# Altium schematic symbol library XH-JST_2.5mm.SchLib: 35 symbols
Pins are listed as number, name and electrical type; pins without a type are passive.

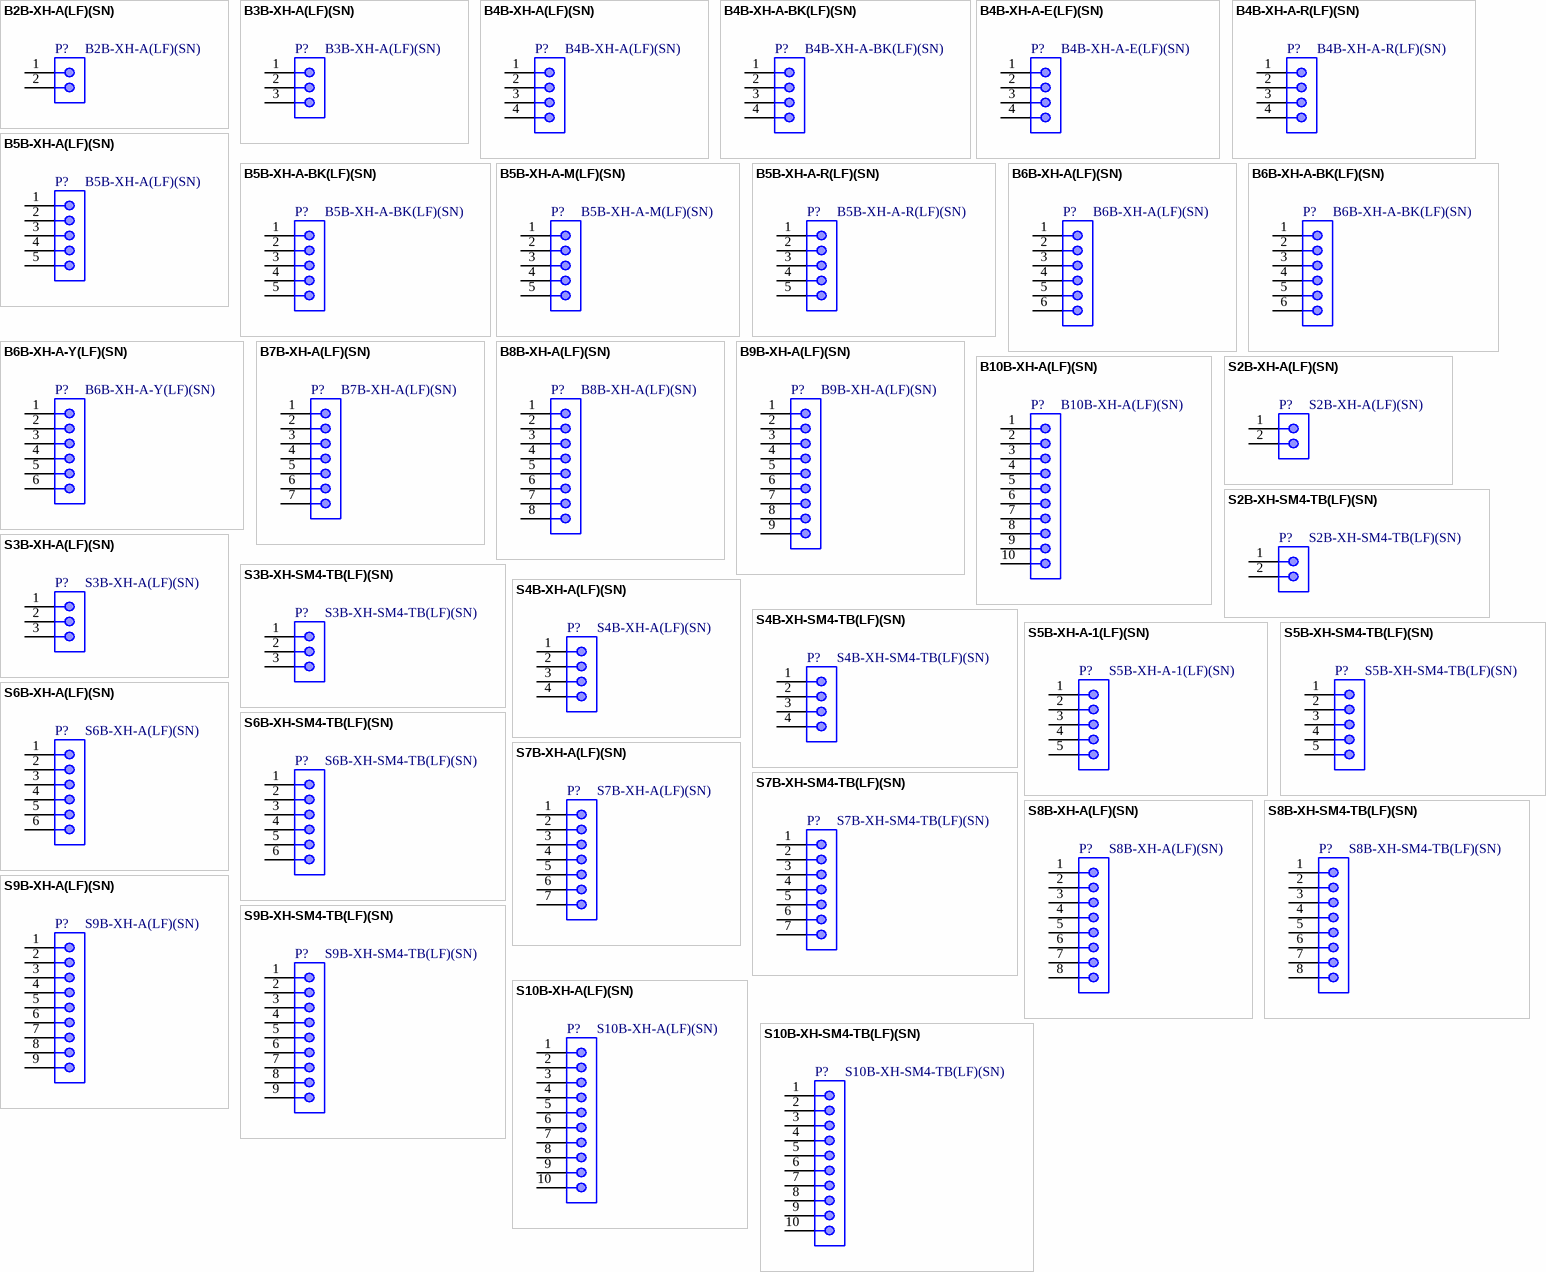
[diagram p0: symbols B2B-XH-A(LF)(SN) to S10B-XH-SM4-TB(LF)(SN)]

## B2B-XH-A(LF)(SN)
designator P?
1x2P 2P XH 1 Tin 2.5mm 2 -25℃~+85℃ 3A Brass Straight Plugin,P=2.5mm Wire To Board / Wire To Wire Connector ROHS; Manufacturer: JST; Pin Number: 2; Contact Resistance: 20mOhm; Gender: Male; Withstanding Voltage: 1000VAC; Working Voltage: 250VAC; ComponentLink1Description: Datasheet; ComponentLink1URL: https://www.lcsc.com/datasheet/lcsc_datasheet_2304140030_JST-B2B-XH-A-LF-SN_C158012.pdf; Pitch: 2.5mm; Packaging: Bag; Type: Vertical; Rated Current: 3A; Supplier 1 URL: N/A; Supplier 2 URL: N/A; Supplier 3 URL: https://www.thegioiic.com/dau-xh-2-54mm-2-chan-thang-xuyen-lo; Value: B2B-XH-A(LF)(SN); LCSC Part #: C158012; Manufacturer Part Number: B2B-XH-A(LF)(SN); Mount: THT; Operating Temperature Max: + 85 C; Operating Temperature Min: - 20 C; Package / Case: 2; Supplier 1: Mouser; Supplier 1 Part Number: N/A; Supplier 2: Digi-Key; Supplier 2 Part Number: N/A; Supplier 3: thegioiic; Supplier 3 Part Number: N/A
footprint 619000211121 (2.54mm Male Locking Header, 2p)
pins: 1, 2

## B3B-XH-A(LF)(SN)
designator P?
1x3P 3P XH 1 Tin 2.5mm 3 -25℃~+85℃ 3A Brass Straight Plugin,P=2.5mm Wire To Board / Wire To Wire Connector ROHS; Manufacturer: JST; Pin Number: 3; Contact Resistance: 20mOhm; Gender: Male; Withstanding Voltage: 1000VAC; Working Voltage: 250VAC; ComponentLink1Description: Datasheet; ComponentLink1URL: https://www.lcsc.com/datasheet/lcsc_datasheet_2304140030_JST-B2B-XH-A-LF-SN_C158012.pdf; Pitch: 2.5mm; Packaging: Bag; Type: Vertical; Rated Current: 3A; Supplier 1 URL: N/A; Supplier 2 URL: N/A; Supplier 3 URL: https://www.thegioiic.com/dau-xh-2-54mm-3-chan-thang-xuyen-lo; Value: B3B-XH-A(LF)(SN); LCSC Part #: C144394; Manufacturer Part Number: B3B-XH-A(LF)(SN); Mount: THT; Operating Temperature Max: + 85 C; Operating Temperature Min: - 20 C; Package / Case: 3; Supplier 1: Mouser; Supplier 1 Part Number: N/A; Supplier 2: Digi-Key; Supplier 2 Part Number: N/A; Supplier 3: thegioiic; Supplier 3 Part Number: N/A
footprint 619000311121 (2.54mm Male Locking Header, 3p)
pins: 1, 2, 3

## B4B-XH-A(LF)(SN)
designator P?
1x4P 4P XH 1 Tin 2.5mm 4 -25℃~+85℃ 3A Brass Straight Plugin,P=2.5mm Wire To Board / Wire To Wire Connector ROHS; Manufacturer: JST; Pin Number: 4; Contact Resistance: 20mOhm; Gender: Male; Withstanding Voltage: 1000VAC; Working Voltage: 250VAC; ComponentLink1Description: Datasheet; ComponentLink1URL: https://www.lcsc.com/datasheet/lcsc_datasheet_2304140030_JST-B2B-XH-A-LF-SN_C158012.pdf; Pitch: 2.5mm; Packaging: Bag; Type: Vertical; Rated Current: 3A; Supplier 1 URL: N/A; Supplier 2 URL: N/A; Supplier 3 URL: https://www.thegioiic.com/dau-xh-2-54mm-4-chan-thang-xuyen-lo; Value: B4B-XH-A(LF)(SN); LCSC Part #: C144395; Manufacturer Part Number: B4B-XH-A(LF)(SN); Mount: THT; Operating Temperature Max: + 85 C; Operating Temperature Min: - 20 C; Package / Case: 4; Supplier 1: Mouser; Supplier 1 Part Number: N/A; Supplier 2: Digi-Key; Supplier 2 Part Number: N/A; Supplier 3: thegioiic; Supplier 3 Part Number: N/A
footprint 619000411121 (2.54mm Male Locking Header, 4p)
pins: 1, 2, 3, 4

## B4B-XH-A-BK(LF)(SN)
designator P?
1x4P 4P XH 1 Tin 2.5mm 4 -25℃~+85℃ 3A Brass Straight Plugin,P=2.5mm Wire To Board / Wire To Wire Connector ROHS; Manufacturer: JST; Pin Number: 4; Contact Resistance: 20mOhm; Gender: Male; Withstanding Voltage: 1000VAC; Working Voltage: 250VAC; ComponentLink1Description: Datasheet; ComponentLink1URL: https://www.lcsc.com/datasheet/lcsc_datasheet_2304140030_JST-B2B-XH-A-LF-SN_C158012.pdf; Pitch: 2.5mm; Packaging: Bag; Type: Vertical; Rated Current: 3A; Supplier 1 URL: N/A; Supplier 2 URL: N/A; Supplier 3 URL: https://www.thegioiic.com/dau-xh-2-54mm-4-chan-thang-xuyen-lo; Value: B4B-XH-A-BK(LF)(SN); LCSC Part #: C595709; Manufacturer Part Number: B4B-XH-A-BK(LF)(SN); Mount: THT; Operating Temperature Max: + 85 C; Operating Temperature Min: - 20 C; Package / Case: 4; Supplier 1: Mouser; Supplier 1 Part Number: N/A; Supplier 2: Digi-Key; Supplier 2 Part Number: N/A; Supplier 3: thegioiic; Supplier 3 Part Number: N/A
footprint 619000411121 (2.54mm Male Locking Header, 4p)
pins: 1, 2, 3, 4

## B4B-XH-A-E(LF)(SN)
designator P?
1x4P 4P XH 1 Tin 2.5mm 4 -25℃~+85℃ 3A Brass Straight Plugin,P=2.5mm Wire To Board / Wire To Wire Connector ROHS; Manufacturer: JST; Pin Number: 4; Contact Resistance: 20mOhm; Gender: Male; Withstanding Voltage: 1000VAC; Working Voltage: 250VAC; ComponentLink1Description: Datasheet; ComponentLink1URL: https://www.lcsc.com/datasheet/lcsc_datasheet_2304140030_JST-B2B-XH-A-LF-SN_C158012.pdf; Pitch: 2.5mm; Packaging: Bag; Type: Vertical; Rated Current: 3A; Supplier 1 URL: N/A; Supplier 2 URL: N/A; Supplier 3 URL: https://www.thegioiic.com/dau-xh-2-54mm-4-chan-thang-xuyen-lo; Value: B4B-XH-A-E(LF)(SN); LCSC Part #: C566014; Manufacturer Part Number: B4B-XH-A-E(LF)(SN); Mount: THT; Operating Temperature Max: + 85 C; Operating Temperature Min: - 20 C; Package / Case: 4; Supplier 1: Mouser; Supplier 1 Part Number: N/A; Supplier 2: Digi-Key; Supplier 2 Part Number: N/A; Supplier 3: thegioiic; Supplier 3 Part Number: N/A
footprint 619000411121 (2.54mm Male Locking Header, 4p)
pins: 1, 2, 3, 4

## B4B-XH-A-R(LF)(SN)
designator P?
1x4P 4P XH 1 Tin 2.5mm 4 -25℃~+85℃ 3A Brass Straight Plugin,P=2.5mm Wire To Board / Wire To Wire Connector ROHS; Manufacturer: JST; Pin Number: 4; Contact Resistance: 20mOhm; Gender: Male; Withstanding Voltage: 1000VAC; Working Voltage: 250VAC; ComponentLink1Description: Datasheet; ComponentLink1URL: https://www.lcsc.com/datasheet/lcsc_datasheet_2304140030_JST-B2B-XH-A-LF-SN_C158012.pdf; Pitch: 2.5mm; Packaging: Bag; Type: Vertical; Rated Current: 3A; Supplier 1 URL: N/A; Supplier 2 URL: N/A; Supplier 3 URL: https://www.thegioiic.com/dau-xh-2-54mm-4-chan-thang-xuyen-lo; Value: B4B-XH-A-R(LF)(SN); LCSC Part #: C595709; Manufacturer Part Number: B4B-XH-A-R(LF)(SN); Mount: THT; Operating Temperature Max: + 85 C; Operating Temperature Min: - 20 C; Package / Case: 4; Supplier 1: Mouser; Supplier 1 Part Number: N/A; Supplier 2: Digi-Key; Supplier 2 Part Number: N/A; Supplier 3: thegioiic; Supplier 3 Part Number: N/A
footprint 619000411121 (2.54mm Male Locking Header, 4p)
pins: 1, 2, 3, 4

## B5B-XH-A(LF)(SN)
designator P?
1x5P 5P XH 1 Tin 2.5mm 5 -25℃~+85℃ 3A Brass Straight Plugin,P=2.5mm Wire To Board / Wire To Wire Connector ROHS; Manufacturer: JST; Pin Number: 5; Contact Resistance: 20mOhm; Gender: Male; Withstanding Voltage: 1000VAC; Working Voltage: 250VAC; ComponentLink1Description: Datasheet; ComponentLink1URL: https://www.lcsc.com/datasheet/lcsc_datasheet_2304140030_JST-B2B-XH-A-LF-SN_C158012.pdf; Pitch: 2.5mm; Packaging: Bag; Type: Vertical; Rated Current: 3A; Supplier 1 URL: N/A; Supplier 2 URL: N/A; Supplier 3 URL: https://www.thegioiic.com/dau-xh-2-54mm-5-chan-thang-xuyen-lo; Value: B5B-XH-A(LF)(SN); LCSC Part #: C157991; Manufacturer Part Number: B5B-XH-A(LF)(SN); Mount: THT; Operating Temperature Max: + 85 C; Operating Temperature Min: - 20 C; Package / Case: 5; Supplier 1: Mouser; Supplier 1 Part Number: N/A; Supplier 2: Digi-Key; Supplier 2 Part Number: N/A; Supplier 3: thegioiic; Supplier 3 Part Number: N/A
footprint 619000511121 (2.54mm Male Locking Header, 5p)
pins: 1, 2, 3, 4, 5

## B5B-XH-A-BK(LF)(SN)
designator P?
1x5P 5P XH 1 Tin 2.5mm 5 -25℃~+85℃ 3A Brass Straight Plugin,P=2.5mm Wire To Board / Wire To Wire Connector ROHS; Manufacturer: JST; Pin Number: 5; Contact Resistance: 20mOhm; Gender: Male; Withstanding Voltage: 1000VAC; Working Voltage: 250VAC; ComponentLink1Description: Datasheet; ComponentLink1URL: https://www.lcsc.com/datasheet/lcsc_datasheet_2304140030_JST-B2B-XH-A-LF-SN_C158012.pdf; Pitch: 2.5mm; Packaging: Bag; Type: Vertical; Rated Current: 3A; Supplier 1 URL: N/A; Supplier 2 URL: N/A; Supplier 3 URL: https://www.thegioiic.com/dau-xh-2-54mm-5-chan-thang-xuyen-lo; Value: B5B-XH-A-BK(LF)(SN); LCSC Part #: C378947; Manufacturer Part Number: B5B-XH-A-BK(LF)(SN); Mount: THT; Operating Temperature Max: + 85 C; Operating Temperature Min: - 20 C; Package / Case: 5; Supplier 1: Mouser; Supplier 1 Part Number: N/A; Supplier 2: Digi-Key; Supplier 2 Part Number: N/A; Supplier 3: thegioiic; Supplier 3 Part Number: N/A
footprint 619000511121 (2.54mm Male Locking Header, 5p)
pins: 1, 2, 3, 4, 5

## B5B-XH-A-M(LF)(SN)
designator P?
1x5P 5P XH 1 Tin 2.5mm 5 -25℃~+85℃ 3A Brass Straight Plugin,P=2.5mm Wire To Board / Wire To Wire Connector ROHS; Manufacturer: JST; Pin Number: 5; Contact Resistance: 20mOhm; Gender: Male; Withstanding Voltage: 1000VAC; Working Voltage: 250VAC; ComponentLink1Description: Datasheet; ComponentLink1URL: https://www.lcsc.com/datasheet/lcsc_datasheet_2304140030_JST-B2B-XH-A-LF-SN_C158012.pdf; Pitch: 2.5mm; Packaging: Bag; Type: Vertical; Rated Current: 3A; Supplier 1 URL: N/A; Supplier 2 URL: N/A; Supplier 3 URL: https://www.thegioiic.com/dau-xh-2-54mm-5-chan-thang-xuyen-lo; Value: B5B-XH-A-M(LF)(SN); LCSC Part #: C495550; Manufacturer Part Number: B5B-XH-A-M(LF)(SN); Mount: THT; Operating Temperature Max: + 85 C; Operating Temperature Min: - 20 C; Package / Case: 5; Supplier 1: Mouser; Supplier 1 Part Number: N/A; Supplier 2: Digi-Key; Supplier 2 Part Number: N/A; Supplier 3: thegioiic; Supplier 3 Part Number: N/A
footprint 619000511121 (2.54mm Male Locking Header, 5p)
pins: 1, 2, 3, 4, 5

## B5B-XH-A-R(LF)(SN)
designator P?
1x5P 5P XH 1 Tin 2.5mm 5 -25℃~+85℃ 3A Brass Straight Plugin,P=2.5mm Wire To Board / Wire To Wire Connector ROHS; Manufacturer: JST; Pin Number: 5; Contact Resistance: 20mOhm; Gender: Male; Withstanding Voltage: 1000VAC; Working Voltage: 250VAC; ComponentLink1Description: Datasheet; ComponentLink1URL: https://www.lcsc.com/datasheet/lcsc_datasheet_2304140030_JST-B2B-XH-A-LF-SN_C158012.pdf; Pitch: 2.5mm; Packaging: Bag; Type: Vertical; Rated Current: 3A; Supplier 1 URL: N/A; Supplier 2 URL: N/A; Supplier 3 URL: https://www.thegioiic.com/dau-xh-2-54mm-5-chan-thang-xuyen-lo; Value: B5B-XH-A-R(LF)(SN); LCSC Part #: C38570328; Manufacturer Part Number: B5B-XH-A-R(LF)(SN); Mount: THT; Operating Temperature Max: + 85 C; Operating Temperature Min: - 20 C; Package / Case: 5; Supplier 1: Mouser; Supplier 1 Part Number: N/A; Supplier 2: Digi-Key; Supplier 2 Part Number: N/A; Supplier 3: thegioiic; Supplier 3 Part Number: N/A
footprint 619000511121 (2.54mm Male Locking Header, 5p)
pins: 1, 2, 3, 4, 5

## B6B-XH-A(LF)(SN)
designator P?
1x6P 6P XH 1 Tin 2.5mm 6 -25℃~+85℃ 3A Brass Straight Plugin,P=2.5mm Wire To Board / Wire To Wire Connector ROHS; Manufacturer: JST; Pin Number: 6; Contact Resistance: 20mOhm; Gender: Male; Withstanding Voltage: 1000VAC; Working Voltage: 250VAC; ComponentLink1Description: Datasheet; ComponentLink1URL: https://www.lcsc.com/datasheet/lcsc_datasheet_2304140030_JST-B2B-XH-A-LF-SN_C158012.pdf; Pitch: 2.5mm; Packaging: Bag; Type: Vertical; Rated Current: 3A; Supplier 1 URL: N/A; Supplier 2 URL: N/A; Supplier 3 URL: https://www.thegioiic.com/dau-xh-2-54mm-6-chan-thang-xuyen-lo; Value: B6B-XH-A(LF)(SN); LCSC Part #: C144397; Manufacturer Part Number: B6B-XH-A(LF)(SN); Mount: THT; Operating Temperature Max: + 85 C; Operating Temperature Min: - 20 C; Package / Case: 6; Supplier 1: Mouser; Supplier 1 Part Number: N/A; Supplier 2: Digi-Key; Supplier 2 Part Number: N/A; Supplier 3: thegioiic; Supplier 3 Part Number: N/A
footprint 619000611121 (2.54mm Male Locking Header, 6p)
pins: 1, 2, 3, 4, 5, 6

## B6B-XH-A-BK(LF)(SN)
designator P?
1x6P 6P XH 1 Tin 2.5mm 6 -25℃~+85℃ 3A Brass Straight Plugin,P=2.5mm Wire To Board / Wire To Wire Connector ROHS; Manufacturer: JST; Pin Number: 6; Contact Resistance: 20mOhm; Gender: Male; Withstanding Voltage: 1000VAC; Working Voltage: 250VAC; ComponentLink1Description: Datasheet; ComponentLink1URL: https://www.lcsc.com/datasheet/lcsc_datasheet_2304140030_JST-B2B-XH-A-LF-SN_C158012.pdf; Pitch: 2.5mm; Packaging: Bag; Type: Vertical; Rated Current: 3A; Supplier 1 URL: N/A; Supplier 2 URL: N/A; Supplier 3 URL: https://www.thegioiic.com/dau-xh-2-54mm-6-chan-thang-xuyen-lo; Value: B6B-XH-A-BK(LF)(SN); LCSC Part #: C378950; Manufacturer Part Number: B6B-XH-A-BK(LF)(SN); Mount: THT; Operating Temperature Max: + 85 C; Operating Temperature Min: - 20 C; Package / Case: 6; Supplier 1: Mouser; Supplier 1 Part Number: N/A; Supplier 2: Digi-Key; Supplier 2 Part Number: N/A; Supplier 3: thegioiic; Supplier 3 Part Number: N/A
footprint 619000611121 (2.54mm Male Locking Header, 6p)
pins: 1, 2, 3, 4, 5, 6

## B6B-XH-A-Y(LF)(SN)
designator P?
1x6P 6P XH 1 Tin 2.5mm 6 -25℃~+85℃ 3A Brass Straight Plugin,P=2.5mm Wire To Board / Wire To Wire Connector ROHS; Manufacturer: JST; Pin Number: 6; Contact Resistance: 20mOhm; Gender: Male; Withstanding Voltage: 1000VAC; Working Voltage: 250VAC; ComponentLink1Description: Datasheet; ComponentLink1URL: https://www.lcsc.com/datasheet/lcsc_datasheet_2304140030_JST-B2B-XH-A-LF-SN_C158012.pdf; Pitch: 2.5mm; Packaging: Bag; Type: Vertical; Rated Current: 3A; Supplier 1 URL: N/A; Supplier 2 URL: N/A; Supplier 3 URL: https://www.thegioiic.com/dau-xh-2-54mm-6-chan-thang-xuyen-lo; Value: B6B-XH-A-Y(LF)(SN); LCSC Part #: C566057; Manufacturer Part Number: B6B-XH-A-Y(LF)(SN); Mount: THT; Operating Temperature Max: + 85 C; Operating Temperature Min: - 20 C; Package / Case: 6; Supplier 1: Mouser; Supplier 1 Part Number: N/A; Supplier 2: Digi-Key; Supplier 2 Part Number: N/A; Supplier 3: thegioiic; Supplier 3 Part Number: N/A
footprint 619000611121 (2.54mm Male Locking Header, 6p)
pins: 1, 2, 3, 4, 5, 6

## B7B-XH-A(LF)(SN)
designator P?
1x7P 7P XH 1 Tin 2.5mm 7 -25℃~+85℃ 3A Brass Straight Plugin,P=2.5mm Wire To Board / Wire To Wire Connector ROHS; Manufacturer: JST; Pin Number: 7; Contact Resistance: 20mOhm; Gender: Male; Withstanding Voltage: 1000VAC; Working Voltage: 250VAC; ComponentLink1Description: Datasheet; ComponentLink1URL: https://www.lcsc.com/datasheet/lcsc_datasheet_2304140030_JST-B2B-XH-A-LF-SN_C158012.pdf; Pitch: 2.5mm; Packaging: Bag; Type: Vertical; Rated Current: 3A; Supplier 1 URL: N/A; Supplier 2 URL: N/A; Supplier 3 URL: https://www.thegioiic.com/dau-xh-2-54mm-7-chan-thang-xuyen-lo; Value: B7B-XH-A(LF)(SN); LCSC Part #: C144398; Manufacturer Part Number: B7B-XH-A(LF)(SN); Mount: THT; Operating Temperature Max: + 85 C; Operating Temperature Min: - 20 C; Package / Case: 7; Supplier 1: Mouser; Supplier 1 Part Number: N/A; Supplier 2: Digi-Key; Supplier 2 Part Number: N/A; Supplier 3: thegioiic; Supplier 3 Part Number: N/A
footprint 619000711121 (2.54mm Male Locking Header, 7p)
pins: 1, 2, 3, 4, 5, 6, 7

## B8B-XH-A(LF)(SN)
designator P?
1x8P 8P XH 1 Tin 2.5mm 8 -25℃~+85℃ 3A Brass Straight Plugin,P=2.5mm Wire To Board / Wire To Wire Connector ROHS; Manufacturer: JST; Pin Number: 8; Contact Resistance: 20mOhm; Gender: Male; Withstanding Voltage: 1000VAC; Working Voltage: 250VAC; ComponentLink1Description: Datasheet; ComponentLink1URL: https://www.lcsc.com/datasheet/lcsc_datasheet_2304140030_JST-B2B-XH-A-LF-SN_C158012.pdf; Pitch: 2.5mm; Packaging: Bag; Type: Vertical; Rated Current: 3A; Supplier 1 URL: N/A; Supplier 2 URL: N/A; Supplier 3 URL: https://www.thegioiic.com/dau-xh-2-54mm-8-chan-thang-xuyen-lo; Value: B8B-XH-A(LF)(SN); LCSC Part #: C157972; Manufacturer Part Number: B8B-XH-A(LF)(SN); Mount: THT; Operating Temperature Max: + 85 C; Operating Temperature Min: - 20 C; Package / Case: 8; Supplier 1: Mouser; Supplier 1 Part Number: N/A; Supplier 2: Digi-Key; Supplier 2 Part Number: N/A; Supplier 3: thegioiic; Supplier 3 Part Number: N/A
footprint 619000811121 (2.54mm Male Locking Header, 8p)
pins: 1, 2, 3, 4, 5, 6, 7, 8

## B9B-XH-A(LF)(SN)
designator P?
1x9P 9P XH 1 Tin 2.5mm 9 -25℃~+85℃ Brass 3A Straight Plugin,P=2.5mm Wire To Board / Wire To Wire Connector ROHS; Manufacturer: JST; Pin Number: 9; Contact Resistance: 20mOhm; Gender: Male; Withstanding Voltage: 1000VAC; Working Voltage: 250VAC; ComponentLink1Description: Datasheet; ComponentLink1URL: https://www.lcsc.com/datasheet/lcsc_datasheet_2304140030_JST-B2B-XH-A-LF-SN_C158012.pdf; Pitch: 2.5mm; Packaging: Bag; Type: Vertical; Rated Current: 3A; Supplier 1 URL: N/A; Supplier 2 URL: N/A; Supplier 3 URL: https://www.thegioiic.com/dau-xh-2-54mm-9-chan-thang-xuyen-lo; Value: B9B-XH-A(LF)(SN); LCSC Part #: C157966; Manufacturer Part Number: B9B-XH-A(LF)(SN); Mount: THT; Operating Temperature Max: + 85 C; Operating Temperature Min: - 20 C; Package / Case: 9; Supplier 1: Mouser; Supplier 1 Part Number: N/A; Supplier 2: Digi-Key; Supplier 2 Part Number: N/A; Supplier 3: thegioiic; Supplier 3 Part Number: N/A
footprint 619000911121 (2.54mm Male Locking Header, 7p)
pins: 1, 2, 3, 4, 5, 6, 7, 8, 9

## B10B-XH-A(LF)(SN)
designator P?
1x10P 10P XH 1 Tin 2.5mm 10 -25℃~+85℃ Brass 3A Straight Plugin,P=2.5mm Wire To Board / Wire To Wire Connector ROHS; Manufacturer: JST; Pin Number: 10; Contact Resistance: 20mOhm; Gender: Male; Withstanding Voltage: 1000VAC; Working Voltage: 250VAC; ComponentLink1Description: Datasheet; ComponentLink1URL: https://www.lcsc.com/datasheet/lcsc_datasheet_2304140030_JST-B2B-XH-A-LF-SN_C158012.pdf; Pitch: 2.5mm; Packaging: Bag; Type: Vertical; Rated Current: 3A; Supplier 1 URL: N/A; Supplier 2 URL: N/A; Supplier 3 URL: https://www.thegioiic.com/dau-xh-2-54mm-10-chan-thang-xuyen-lo; Value: B10B-XH-A(LF)(SN); LCSC Part #: C565901; Manufacturer Part Number: B10B-XH-A(LF)(SN); Mount: THT; Operating Temperature Max: + 85 C; Operating Temperature Min: - 20 C; Package / Case: 10; Supplier 1: Mouser; Supplier 1 Part Number: N/A; Supplier 2: Digi-Key; Supplier 2 Part Number: N/A; Supplier 3: thegioiic; Supplier 3 Part Number: N/A
footprint 619001011121 (2.54mm Male Locking Header, 10p)
pins: 1, 2, 3, 4, 5, 6, 7, 8, 9, 10

## S2B-XH-A(LF)(SN)
designator P?
1x2P 2P XH 1 2.5mm 2 Brass Right-Angle Push-Pull,P=2.5mm Wire To Board / Wire To Wire Connector ROHS; Manufacturer: JST; Pin Number: 2; Contact Resistance: 20mOhm; Gender: Male; Rated Current: 3A; Withstanding Voltage: 1000VAC; Working Voltage: 250VAC; ComponentLink1Description: Datasheet; ComponentLink1URL: https://www.lcsc.com/datasheet/lcsc_datasheet_2304140030_JST-B2B-XH-A-LF-SN_C158012.pdf; Pitch: 2.5mm; Packaging: Bag; Type: Right Angled Bottom Locking; Supplier 1 URL: N/A; Supplier 2 URL: N/A; Supplier 3 URL: https://www.thegioiic.com/dau-xh-2-54mm-2-chan-cong-xuyen-lo; Value: S2B-XH-A(LF)(SN); LCSC Part #: C157931; Manufacturer Part Number: S2B-XH-A(LF)(SN); Mount: THT; Operating Temperature Max: + 85 C; Operating Temperature Min: - 20 C; Package / Case: 2; Supplier 1: Mouser; Supplier 1 Part Number: N/A; Supplier 2: Digi-Key; Supplier 2 Part Number: N/A; Supplier 3: thegioiic; Supplier 3 Part Number: N/A
footprint 619000211021 (2.54mm Male Left Angled Header Bottom Locking, 2p)
pins: 1, 2

## S2B-XH-SM4-TB(LF)(SN)
designator P?
1x2P 2P XH 1 2.5mm 2 Brass Right-Angle Push-Pull,P=2.5mm Wire To Board / Wire To Wire Connector ROHS; Manufacturer: JST; Pin Number: 2; Contact Resistance: 20mOhm; Gender: Male; Rated Current: 3A; Withstanding Voltage: 1000VAC; Working Voltage: 250VAC; ComponentLink1Description: Datasheet; ComponentLink1URL: https://www.lcsc.com/datasheet/lcsc_datasheet_2304140030_JST-B2B-XH-A-LF-SN_C158012.pdf; Pitch: 2.5mm; Packaging: Bag; Type: Right Angled Bottom Locking; Supplier 1 URL: N/A; Supplier 2 URL: N/A; Supplier 3 URL: https://www.thegioiic.com/dau-xh2-54mm-2-chan-dan-smd-nam-ngang; Value: S2B-XH-SM4-TB(LF)(SN); LCSC Part #: N/A; Manufacturer Part Number: S2B-XH-SM4-TB(LF)(SN); Mount: SMD; Operating Temperature Max: + 85 C; Operating Temperature Min: - 20 C; Package / Case: 2; Supplier 1: Mouser; Supplier 1 Part Number: N/A; Supplier 2: Digi-Key; Supplier 2 Part Number: N/A; Supplier 3: thegioiic; Supplier 3 Part Number: N/A
footprint 619000211221 (2.54mm Male Left Angled Header Bottom Locking, 2p)
pins: 1, 2

## S3B-XH-A(LF)(SN)
designator P?
1x3P 3P XH 1 2.5mm 3 Brass Right-Angle Push-Pull,P=2.5mm Wire To Board / Wire To Wire Connector ROHS; Manufacturer: JST; Pin Number: 3; Contact Resistance: 20mOhm; Gender: Male; Rated Current: 3A; Withstanding Voltage: 1000VAC; Working Voltage: 250VAC; ComponentLink1Description: Datasheet; ComponentLink1URL: https://www.lcsc.com/datasheet/lcsc_datasheet_2304140030_JST-B2B-XH-A-LF-SN_C158012.pdf; Pitch: 2.5mm; Packaging: Bag; Type: Right Angled Bottom Locking; Supplier 1 URL: N/A; Supplier 2 URL: N/A; Supplier 3 URL: https://www.thegioiic.com/dau-xh-2-54mm-3-chan-cong-xuyen-lo; Value: S3B-XH-A(LF)(SN); LCSC Part #: C157928; Manufacturer Part Number: S3B-XH-A(LF)(SN); Mount: THT; Operating Temperature Max: + 85 C; Operating Temperature Min: - 20 C; Package / Case: 3; Supplier 1: Mouser; Supplier 1 Part Number: N/A; Supplier 2: Digi-Key; Supplier 2 Part Number: N/A; Supplier 3: thegioiic; Supplier 3 Part Number: N/A
footprint 619000311021 (2.54mm Male Left Angled Header Bottom Locking, 3p)
pins: 1, 2, 3

## S3B-XH-SM4-TB(LF)(SN)
designator P?
1x3P 3P XH 1 2.5mm 3 Brass Right-Angle Push-Pull,P=2.5mm Wire To Board / Wire To Wire Connector ROHS; Manufacturer: JST; Pin Number: 3; Contact Resistance: 20mOhm; Gender: Male; Rated Current: 3A; Withstanding Voltage: 1000VAC; Working Voltage: 250VAC; ComponentLink1Description: Datasheet; ComponentLink1URL: https://www.lcsc.com/datasheet/lcsc_datasheet_2304140030_JST-B2B-XH-A-LF-SN_C158012.pdf; Pitch: 2.5mm; Packaging: Bag; Type: Right Angled Bottom Locking; Supplier 1 URL: N/A; Supplier 2 URL: N/A; Supplier 3 URL: https://www.thegioiic.com/dau-xh2-54mm-3-chan-dan-smd-nam-ngang; Value: S3B-XH-SM4-TB(LF)(SN); LCSC Part #: C161860; Manufacturer Part Number: S3B-XH-SM4-TB(LF)(SN); Mount: SMD; Operating Temperature Max: + 85 C; Operating Temperature Min: - 20 C; Package / Case: 3; Supplier 1: Mouser; Supplier 1 Part Number: N/A; Supplier 2: Digi-Key; Supplier 2 Part Number: N/A; Supplier 3: thegioiic; Supplier 3 Part Number: N/A
footprint 619000311221 (2.54mm Male Left Angled Header Bottom Locking, 3p, SMD)
pins: 1, 2, 3

## S4B-XH-A(LF)(SN)
designator P?
1x4P 4P XH 1 2.5mm 4 Brass Right-Angle Push-Pull,P=2.5mm Wire To Board / Wire To Wire Connector ROHS; Manufacturer: JST; Pin Number: 4; Contact Resistance: 20mOhm; Gender: Male; Rated Current: 3A; Withstanding Voltage: 1000VAC; Working Voltage: 250VAC; ComponentLink1Description: Datasheet; ComponentLink1URL: https://www.lcsc.com/datasheet/lcsc_datasheet_2304140030_JST-B2B-XH-A-LF-SN_C158012.pdf; Pitch: 2.5mm; Packaging: Bag; Type: Right Angled Bottom Locking; Supplier 1 URL: N/A; Supplier 2 URL: N/A; Supplier 3 URL: https://www.thegioiic.com/dau-xh-2-54mm-4-chan-cong-xuyen-lo; Value: S4B-XH-A(LF)(SN); LCSC Part #: C157925; Manufacturer Part Number: S4B-XH-A(LF)(SN); Mount: THT; Operating Temperature Max: + 85 C; Operating Temperature Min: - 20 C; Package / Case: 4; Supplier 1: Mouser; Supplier 1 Part Number: N/A; Supplier 2: Digi-Key; Supplier 2 Part Number: N/A; Supplier 3: thegioiic; Supplier 3 Part Number: N/A
footprint 619000411021 (2.54mm Male Left Angled Header Bottom Locking, 4p)
pins: 1, 2, 3, 4

## S4B-XH-SM4-TB(LF)(SN)
designator P?
1x4P 4P XH 1 2.5mm 4 Brass Right-Angle Push-Pull,P=2.5mm Wire To Board / Wire To Wire Connector ROHS; Manufacturer: JST; Pin Number: 4; Contact Resistance: 20mOhm; Gender: Male; Rated Current: 3A; Withstanding Voltage: 1000VAC; Working Voltage: 250VAC; ComponentLink1Description: Datasheet; ComponentLink1URL: https://www.lcsc.com/datasheet/lcsc_datasheet_2304140030_JST-B2B-XH-A-LF-SN_C158012.pdf; Pitch: 2.5mm; Packaging: Bag; Type: Right Angled Bottom Locking; Supplier 1 URL: N/A; Supplier 2 URL: N/A; Supplier 3 URL: https://www.thegioiic.com/dau-xh2-54mm-4-chan-dan-smd-nam-ngang; Value: S4B-XH-SM4-TB(LF)(SN); LCSC Part #: C161861; Manufacturer Part Number: S4B-XH-SM4-TB(LF)(SN); Mount: SMD; Operating Temperature Max: + 85 C; Operating Temperature Min: - 20 C; Package / Case: 4; Supplier 1: Mouser; Supplier 1 Part Number: N/A; Supplier 2: Digi-Key; Supplier 2 Part Number: N/A; Supplier 3: thegioiic; Supplier 3 Part Number: N/A
footprint 619000411221 (2.54mm Male Left Angled Header Bottom Locking, 4p, SMD)
pins: 1, 2, 3, 4

## S5B-XH-A-1(LF)(SN)
designator P?
1x5P 5P XH 1 2.5mm 5 Brass Right-Angle Push-Pull,P=2.5mm Wire To Board / Wire To Wire Connector ROHS; Manufacturer: JST; Pin Number: 5; Contact Resistance: 20mOhm; Gender: Male; Rated Current: 3A; Withstanding Voltage: 1000VAC; Working Voltage: 250VAC; ComponentLink1Description: Datasheet; ComponentLink1URL: https://www.lcsc.com/datasheet/lcsc_datasheet_2304140030_JST-B2B-XH-A-LF-SN_C158012.pdf; Pitch: 2.5mm; Packaging: Bag; Type: Right Angled Bottom Locking; Supplier 1 URL: N/A; Supplier 2 URL: N/A; Supplier 3 URL: https://www.thegioiic.com/dau-xh-2-54mm-5-chan-cong-xuyen-lo; Value: S5B-XH-A-1(LF)(SN); LCSC Part #: C163038; Manufacturer Part Number: S5B-XH-A-1(LF)(SN); Mount: THT; Operating Temperature Max: + 85 C; Operating Temperature Min: - 20 C; Package / Case: 5; Supplier 1: Mouser; Supplier 1 Part Number: N/A; Supplier 2: Digi-Key; Supplier 2 Part Number: N/A; Supplier 3: thegioiic; Supplier 3 Part Number: N/A
footprint 619000511021 (2.54mm Male Locking Header, 5p)
pins: 1, 2, 3, 4, 5

## S5B-XH-SM4-TB(LF)(SN)
designator P?
1x5P 5P XH 1 2.5mm 5 Brass Right-Angle Push-Pull,P=2.5mm Wire To Board / Wire To Wire Connector ROHS; Manufacturer: JST; Pin Number: 5; Contact Resistance: 20mOhm; Gender: Male; Rated Current: 3A; Withstanding Voltage: 1000VAC; Working Voltage: 250VAC; ComponentLink1Description: Datasheet; ComponentLink1URL: https://www.lcsc.com/datasheet/lcsc_datasheet_2304140030_JST-B2B-XH-A-LF-SN_C158012.pdf; Pitch: 2.5mm; Packaging: Bag; Type: Right Angled Bottom Locking; Supplier 1 URL: N/A; Supplier 2 URL: N/A; Supplier 3 URL: https://www.thegioiic.com/dau-xh2-54mm-5-chan-dan-smd-nam-ngang; Value: S5B-XH-SM4-TB(LF)(SN); LCSC Part #: N/A; Manufacturer Part Number: S5B-XH-SM4-TB(LF)(SN); Mount: SMD; Operating Temperature Max: + 85 C; Operating Temperature Min: - 20 C; Package / Case: 5; Supplier 1: Mouser; Supplier 1 Part Number: N/A; Supplier 2: Digi-Key; Supplier 2 Part Number: N/A; Supplier 3: thegioiic; Supplier 3 Part Number: N/A
footprint 619000511221 (2.54mm Male Left Angled Header Bottom Locking, 5p, SMD)
pins: 1, 2, 3, 4, 5

## S6B-XH-A(LF)(SN)
designator P?
1x6P 6P XH 1 2.5mm 6 Brass Right-Angle Push-Pull,P=2.5mm Wire To Board / Wire To Wire Connector ROHS; Manufacturer: JST; Pin Number: 6; Contact Resistance: 20mOhm; Gender: Male; Rated Current: 3A; Withstanding Voltage: 1000VAC; Working Voltage: 250VAC; ComponentLink1Description: Datasheet; ComponentLink1URL: https://www.lcsc.com/datasheet/lcsc_datasheet_2304140030_JST-B2B-XH-A-LF-SN_C158012.pdf; Pitch: 2.5mm; Packaging: Bag; Type: Right Angled Bottom Locking; Supplier 1 URL: N/A; Supplier 2 URL: N/A; Supplier 3 URL: https://www.thegioiic.com/dau-xh-2-54mm-6-chan-cong-xuyen-lo; Value: S6B-XH-A(LF)(SN); LCSC Part #: C157919; Manufacturer Part Number: S6B-XH-A(LF)(SN); Mount: THT; Operating Temperature Max: + 85 C; Operating Temperature Min: - 20 C; Package / Case: 6; Supplier 1: Mouser; Supplier 1 Part Number: N/A; Supplier 2: Digi-Key; Supplier 2 Part Number: N/A; Supplier 3: thegioiic; Supplier 3 Part Number: N/A
footprint 619000611021 (2.54mm Male Locking Header, 6p)
pins: 1, 2, 3, 4, 5, 6

## S6B-XH-SM4-TB(LF)(SN)
designator P?
1x6P 6P XH 1 2.5mm 6 Brass Right-Angle Push-Pull,P=2.5mm Wire To Board / Wire To Wire Connector ROHS; Manufacturer: JST; Pin Number: 6; Contact Resistance: 20mOhm; Gender: Male; Rated Current: 3A; Withstanding Voltage: 1000VAC; Working Voltage: 250VAC; ComponentLink1Description: Datasheet; ComponentLink1URL: https://www.lcsc.com/datasheet/lcsc_datasheet_2304140030_JST-B2B-XH-A-LF-SN_C158012.pdf; Pitch: 2.5mm; Packaging: Bag; Type: Right Angled Bottom Locking; Supplier 1 URL: N/A; Supplier 2 URL: N/A; Supplier 3 URL: https://www.thegioiic.com/dau-xh2-54mm-6-chan-dan-smd-nam-ngang; Value: S6B-XH-SM4-TB(LF)(SN); LCSC Part #: C191914; Manufacturer Part Number: S6B-XH-SM4-TB(LF)(SN); Mount: SMD; Operating Temperature Max: + 85 C; Operating Temperature Min: - 20 C; Package / Case: 6; Supplier 1: Mouser; Supplier 1 Part Number: N/A; Supplier 2: Digi-Key; Supplier 2 Part Number: N/A; Supplier 3: thegioiic; Supplier 3 Part Number: N/A
footprint 619000611221 (2.54mm Male Left Angled Header Bottom Locking, 6p, SMD)
pins: 1, 2, 3, 4, 5, 6

## S7B-XH-A(LF)(SN)
designator P?
1x7P 7P XH 1 2.5mm 7 Brass Right-Angle Push-Pull,P=2.5mm Wire To Board / Wire To Wire Connector ROHS; Manufacturer: JST; Pin Number: 7; Contact Resistance: 20mOhm; Gender: Male; Rated Current: 3A; Withstanding Voltage: 1000VAC; Working Voltage: 250VAC; ComponentLink1Description: Datasheet; ComponentLink1URL: https://www.lcsc.com/datasheet/lcsc_datasheet_2304140030_JST-B2B-XH-A-LF-SN_C158012.pdf; Pitch: 2.5mm; Packaging: Bag; Type: Right Angled Bottom Locking; Supplier 1 URL: N/A; Supplier 2 URL: N/A; Supplier 3 URL: https://www.thegioiic.com/dau-xh-2-54mm-7-chan-cong-xuyen-lo; Value: S7B-XH-A(LF)(SN); LCSC Part #: C157916; Manufacturer Part Number: S7B-XH-A(LF)(SN); Mount: THT; Operating Temperature Max: + 85 C; Operating Temperature Min: - 20 C; Package / Case: 7; Supplier 1: Mouser; Supplier 1 Part Number: N/A; Supplier 2: Digi-Key; Supplier 2 Part Number: N/A; Supplier 3: thegioiic; Supplier 3 Part Number: N/A
footprint 619000711021 (2.54mm Male Locking Header, 7p)
pins: 1, 2, 3, 4, 5, 6, 7

## S7B-XH-SM4-TB(LF)(SN)
designator P?
1x7P 7P XH 1 2.5mm 7 Brass Right-Angle Push-Pull,P=2.5mm Wire To Board / Wire To Wire Connector ROHS; Manufacturer: JST; Pin Number: 7; Contact Resistance: 20mOhm; Gender: Male; Rated Current: 3A; Withstanding Voltage: 1000VAC; Working Voltage: 250VAC; ComponentLink1Description: Datasheet; ComponentLink1URL: https://www.lcsc.com/datasheet/lcsc_datasheet_2304140030_JST-B2B-XH-A-LF-SN_C158012.pdf; Pitch: 2.5mm; Packaging: Bag; Type: Right Angled Bottom Locking; Supplier 1 URL: N/A; Supplier 2 URL: N/A; Supplier 3 URL: https://www.thegioiic.com/dau-xh2-54mm-7-chan-dan-smd-nam-ngang; Value: S7B-XH-SM4-TB(LF)(SN); LCSC Part #: N/A; Manufacturer Part Number: S7B-XH-SM4-TB(LF)(SN); Mount: SMD; Operating Temperature Max: + 85 C; Operating Temperature Min: - 20 C; Package / Case: 7; Supplier 1: Mouser; Supplier 1 Part Number: N/A; Supplier 2: Digi-Key; Supplier 2 Part Number: N/A; Supplier 3: thegioiic; Supplier 3 Part Number: N/A
footprint 619000711221 (2.54mm Male Left Angled Header Bottom Locking, 7p, SMD)
pins: 1, 2, 3, 4, 5, 6, 7

## S8B-XH-A(LF)(SN)
designator P?
1x8P 8P XH 1 2.5mm 8 Brass Right-Angle Push-Pull,P=2.5mm Wire To Board / Wire To Wire Connector ROHS; Manufacturer: JST; Pin Number: 8; Contact Resistance: 20mOhm; Gender: Male; Rated Current: 3A; Withstanding Voltage: 1000VAC; Working Voltage: 250VAC; ComponentLink1Description: Datasheet; ComponentLink1URL: https://www.lcsc.com/datasheet/lcsc_datasheet_2304140030_JST-B2B-XH-A-LF-SN_C158012.pdf; Pitch: 2.5mm; Packaging: Bag; Type: Right Angled Bottom Locking; Supplier 1 URL: N/A; Supplier 2 URL: N/A; Supplier 3 URL: https://www.thegioiic.com/dau-xh-2-54mm-8-chan-cong-xuyen-lo; Value: S8B-XH-A(LF)(SN); LCSC Part #: C157914; Manufacturer Part Number: S8B-XH-A(LF)(SN); Mount: THT; Operating Temperature Max: + 85 C; Operating Temperature Min: - 20 C; Package / Case: 8; Supplier 1: Mouser; Supplier 1 Part Number: N/A; Supplier 2: Digi-Key; Supplier 2 Part Number: N/A; Supplier 3: thegioiic; Supplier 3 Part Number: N/A
footprint 619000811021 (2.54mm Male Locking Header, 8p)
pins: 1, 2, 3, 4, 5, 6, 7, 8

## S8B-XH-SM4-TB(LF)(SN)
designator P?
1x8P 8P XH 1 2.5mm 8 Brass Right-Angle Push-Pull,P=2.5mm Wire To Board / Wire To Wire Connector ROHS; Manufacturer: JST; Pin Number: 8; Contact Resistance: 20mOhm; Gender: Male; Rated Current: 3A; Withstanding Voltage: 1000VAC; Working Voltage: 250VAC; ComponentLink1Description: Datasheet; ComponentLink1URL: https://www.lcsc.com/datasheet/lcsc_datasheet_2304140030_JST-B2B-XH-A-LF-SN_C158012.pdf; Pitch: 2.5mm; Packaging: Bag; Type: Right Angled Bottom Locking; Supplier 1 URL: N/A; Supplier 2 URL: N/A; Supplier 3 URL: https://www.thegioiic.com/dau-xh2-54mm-8-chan-dan-smd-nam-ngang; Value: S8B-XH-SM4-TB(LF)(SN); LCSC Part #: N/A; Manufacturer Part Number: S8B-XH-SM4-TB(LF)(SN); Mount: SMD; Operating Temperature Max: + 85 C; Operating Temperature Min: - 20 C; Package / Case: 8; Supplier 1: Mouser; Supplier 1 Part Number: N/A; Supplier 2: Digi-Key; Supplier 2 Part Number: N/A; Supplier 3: thegioiic; Supplier 3 Part Number: N/A
footprint 619000811221 (2.54mm Male Left Angled Header Bottom Locking, 8p, SMD)
pins: 1, 2, 3, 4, 5, 6, 7, 8

## S9B-XH-A(LF)(SN)
designator P?
1x9P 9P XH 1 2.5mm 9 Brass Right-Angle Push-Pull,P=2.5mm Wire To Board / Wire To Wire Connector ROHS; Manufacturer: JST; Pin Number: 9; Contact Resistance: 20mOhm; Gender: Male; Rated Current: 3A; Withstanding Voltage: 1000VAC; Working Voltage: 250VAC; ComponentLink1Description: Datasheet; ComponentLink1URL: https://www.lcsc.com/datasheet/lcsc_datasheet_2304140030_JST-B2B-XH-A-LF-SN_C158012.pdf; Pitch: 2.5mm; Packaging: Bag; Type: Right Angled Bottom Locking; Supplier 1 URL: N/A; Supplier 2 URL: N/A; Supplier 3 URL: https://www.thegioiic.com/dau-xh-2-54mm-9-chan-cong-xuyen-lo; Value: S9B-XH-A(LF)(SN); LCSC Part #: C157911; Manufacturer Part Number: S9B-XH-A(LF)(SN); Mount: THT; Operating Temperature Max: + 85 C; Operating Temperature Min: - 20 C; Package / Case: 9; Supplier 1: Mouser; Supplier 1 Part Number: N/A; Supplier 2: Digi-Key; Supplier 2 Part Number: N/A; Supplier 3: thegioiic; Supplier 3 Part Number: N/A
footprint 619000911021 (2.54mm Male Locking Header, 7p)
pins: 1, 2, 3, 4, 5, 6, 7, 8, 9

## S9B-XH-SM4-TB(LF)(SN)
designator P?
1x9P 9P XH 1 2.5mm 9 Brass Right-Angle Push-Pull,P=2.5mm Wire To Board / Wire To Wire Connector ROHS; Manufacturer: JST; Pin Number: 9; Contact Resistance: 20mOhm; Gender: Male; Rated Current: 3A; Withstanding Voltage: 1000VAC; Working Voltage: 250VAC; ComponentLink1Description: Datasheet; ComponentLink1URL: https://www.lcsc.com/datasheet/lcsc_datasheet_2304140030_JST-B2B-XH-A-LF-SN_C158012.pdf; Pitch: 2.5mm; Packaging: Bag; Type: Right Angled Bottom Locking; Supplier 1 URL: N/A; Supplier 2 URL: N/A; Supplier 3 URL: N/A; Value: S9B-XH-SM4-TB(LF)(SN); LCSC Part #: N/A; Manufacturer Part Number: S9B-XH-SM4-TB(LF)(SN); Mount: SMD; Operating Temperature Max: + 85 C; Operating Temperature Min: - 20 C; Package / Case: 9; Supplier 1: Mouser; Supplier 1 Part Number: N/A; Supplier 2: Digi-Key; Supplier 2 Part Number: N/A; Supplier 3: thegioiic; Supplier 3 Part Number: N/A
footprint 619000911221 (2.54mm Male Left Angled Header Bottom Locking, 9p, SMD)
pins: 1, 2, 3, 4, 5, 6, 7, 8, 9

## S10B-XH-A(LF)(SN)
designator P?
1x10P 10P XH 1 2.5mm 10 Brass Right-Angle Push-Pull,P=2.5mm Wire To Board / Wire To Wire Connector ROHS; Manufacturer: JST; Pin Number: 10; Contact Resistance: 20mOhm; Gender: Male; Rated Current: 3A; Withstanding Voltage: 1000VAC; Working Voltage: 250VAC; ComponentLink1Description: Datasheet; ComponentLink1URL: https://www.lcsc.com/datasheet/lcsc_datasheet_2304140030_JST-B2B-XH-A-LF-SN_C158012.pdf; Pitch: 2.5mm; Packaging: Bag; Type: Right Angled Bottom Locking; Supplier 1 URL: N/A; Supplier 2 URL: N/A; Supplier 3 URL: https://www.thegioiic.com/dau-xh-2-54mm-10-chan-cong-xuyen-lo; Value: S10B-XH-A(LF)(SN); LCSC Part #: C378989; Manufacturer Part Number: S10B-XH-A(LF)(SN); Mount: THT; Operating Temperature Max: + 85 C; Operating Temperature Min: - 20 C; Package / Case: 10; Supplier 1: Mouser; Supplier 1 Part Number: N/A; Supplier 2: Digi-Key; Supplier 2 Part Number: N/A; Supplier 3: thegioiic; Supplier 3 Part Number: N/A
footprint 619001011021 (2.54mm Male Locking Header, 10p)
pins: 1, 2, 3, 4, 5, 6, 7, 8, 9, 10

## S10B-XH-SM4-TB(LF)(SN)
designator P?
1x10P 10P XH 1 2.5mm 10 Brass Right-Angle Push-Pull,P=2.5mm Wire To Board / Wire To Wire Connector ROHS; Manufacturer: JST; Pin Number: 10; Contact Resistance: 20mOhm; Gender: Male; Rated Current: 3A; Withstanding Voltage: 1000VAC; Working Voltage: 250VAC; ComponentLink1Description: Datasheet; ComponentLink1URL: https://www.lcsc.com/datasheet/lcsc_datasheet_2304140030_JST-B2B-XH-A-LF-SN_C158012.pdf; Pitch: 2.5mm; Packaging: Bag; Type: Right Angled Bottom Locking; Supplier 1 URL: N/A; Supplier 2 URL: N/A; Supplier 3 URL: N/A; Value: S10B-XH-SM4-TB(LF)(SN); LCSC Part #: N/A; Manufacturer Part Number: S10B-XH-SM4-TB(LF)(SN); Mount: SMD; Operating Temperature Max: + 85 C; Operating Temperature Min: - 20 C; Package / Case: 10; Supplier 1: Mouser; Supplier 1 Part Number: N/A; Supplier 2: Digi-Key; Supplier 2 Part Number: N/A; Supplier 3: thegioiic; Supplier 3 Part Number: N/A
footprint 619001011221 (2.54mm Male Left Angled Header Bottom Locking, 10p, SMD)
pins: 1, 2, 3, 4, 5, 6, 7, 8, 9, 10